# Altium schematic symbol library 2199119-4.SchLib: 1 symbol
Pins are listed as number, name and electrical type; pins without a type are passive.

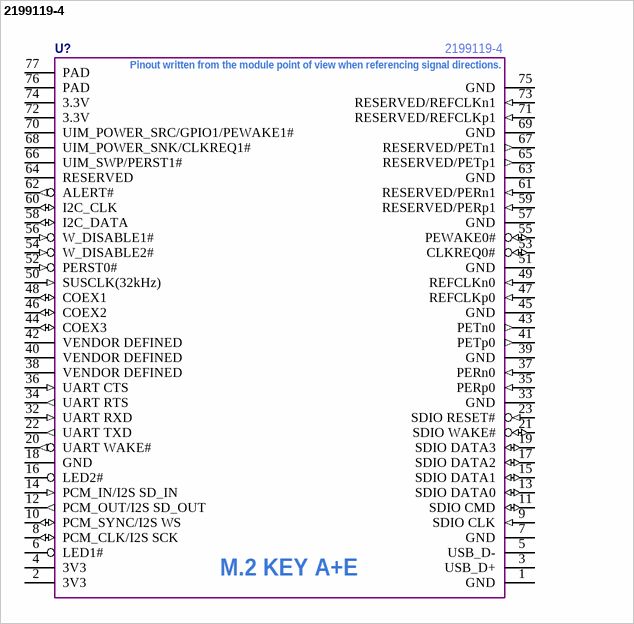
[diagram p0: symbol 2199119-4]

## 2199119-4
designator U?
Manufacture Part Number: 2199119-4
pins: 1 GND (power), 2 3V3 (power), 3 USB_D+ "DIFF PAIR DP", 4 3V3 (power), 5 USB_D- "DIFF PAIR DM", 6 LED1# (oc) "3V3", 7 GND (power), 8 PCM_CLK/I2S SCK (io) "1V8", 9 SDIO CLK (in) "1V8", 10 PCM_SYNC/I2S WS (io) "1V8", 11 SDIO CMD (io) "1V8", 12 PCM_OUT/I2S SD_OUT (out) "1V8", 13 SDIO DATA0 (io) "1V8", 14 PCM_IN/I2S SD_IN (in) "1V8", 15 SDIO DATA1 (io) "1V8", 16 LED2# (oc) "3V3", 17 SDIO DATA2 (io) "1V8", 18 GND (power), 19 SDIO DATA3 (io) "1V8", 20 UART WAKE# (out) "3V3", 21 SDIO WAKE# (io) "1V8", 22 UART TXD (out) "1V8", 23 SDIO RESET# (in) "1V8", 32 UART RXD (in) "1V8", 33 GND (power), 34 UART RTS (out), 35 PERp0 (in) "DIFF PAIR DP", 36 UART CTS (in) "1V8", 37 PERn0 (in) "DIFF PAIR DM", 38 VENDOR DEFINED, 39 GND (power), 40 VENDOR DEFINED, 41 PETp0 (out) "DIFF PAIR DP", 42 VENDOR DEFINED, 43 PETn0 (out) "DIFF PAIR DM", 44 COEX3 (io) "1V8", 45 GND (power), 46 COEX2 (io) "1V8", 47 REFCLKp0 (in) "DIFF PAIR DP", 48 COEX1 (io) "1V8", 49 REFCLKn0 (in) "DIFF PAIR DM", 50 SUSCLK(32kHz) (in) "3V3", 51 GND (power), 52 PERST0# (in) "3V3", 53 CLKREQ0# (io) "3V3", 54 W_DISABLE2# (in) "3V3", 55 PEWAKE0# (io) "3V3", 56 W_DISABLE1# (in) "3V3", 57 GND (power), 58 I2C_DATA (io) "3V3 Open Collector", 59 RESERVED/PERp1 (in) "DIFF PAIR DP", 60 I2C_CLK (io) "3V3 Open Collector", 61 RESERVED/PERn1 (in) "DIFF PAIR DM", 62 ALERT# (out) "3V3", 63 GND (power), 64 RESERVED, 65 RESERVED/PETp1 (out) "DIFF PAIR DP", 66 UIM_SWP/PERST1#, 67 RESERVED/PETn1 (out) "DIFF PAIR DM", 68 UIM_POWER_SNK/CLKREQ1#, 69 GND (power), 70 UIM_POWER_SRC/GPIO1/PEWAKE1#, 71 RESERVED/REFCLKp1 (in) "DIFF PAIR DP", 72 3.3V (power) "3V3", 73 RESERVED/REFCLKn1 (in) "DIFF PAIR DM", 74 3.3V (power) "3V3", 75 GND (power), 76 PAD "GND", 77 PAD "GND"
text: Pinout written from the module point of view when referencing signal directions.; M.2 KEY A+E